# Altium schematic symbol library FRONT-UNIT-7.SchLib: 134 symbols
Pins are listed as number, name and electrical type; pins without a type are passive.

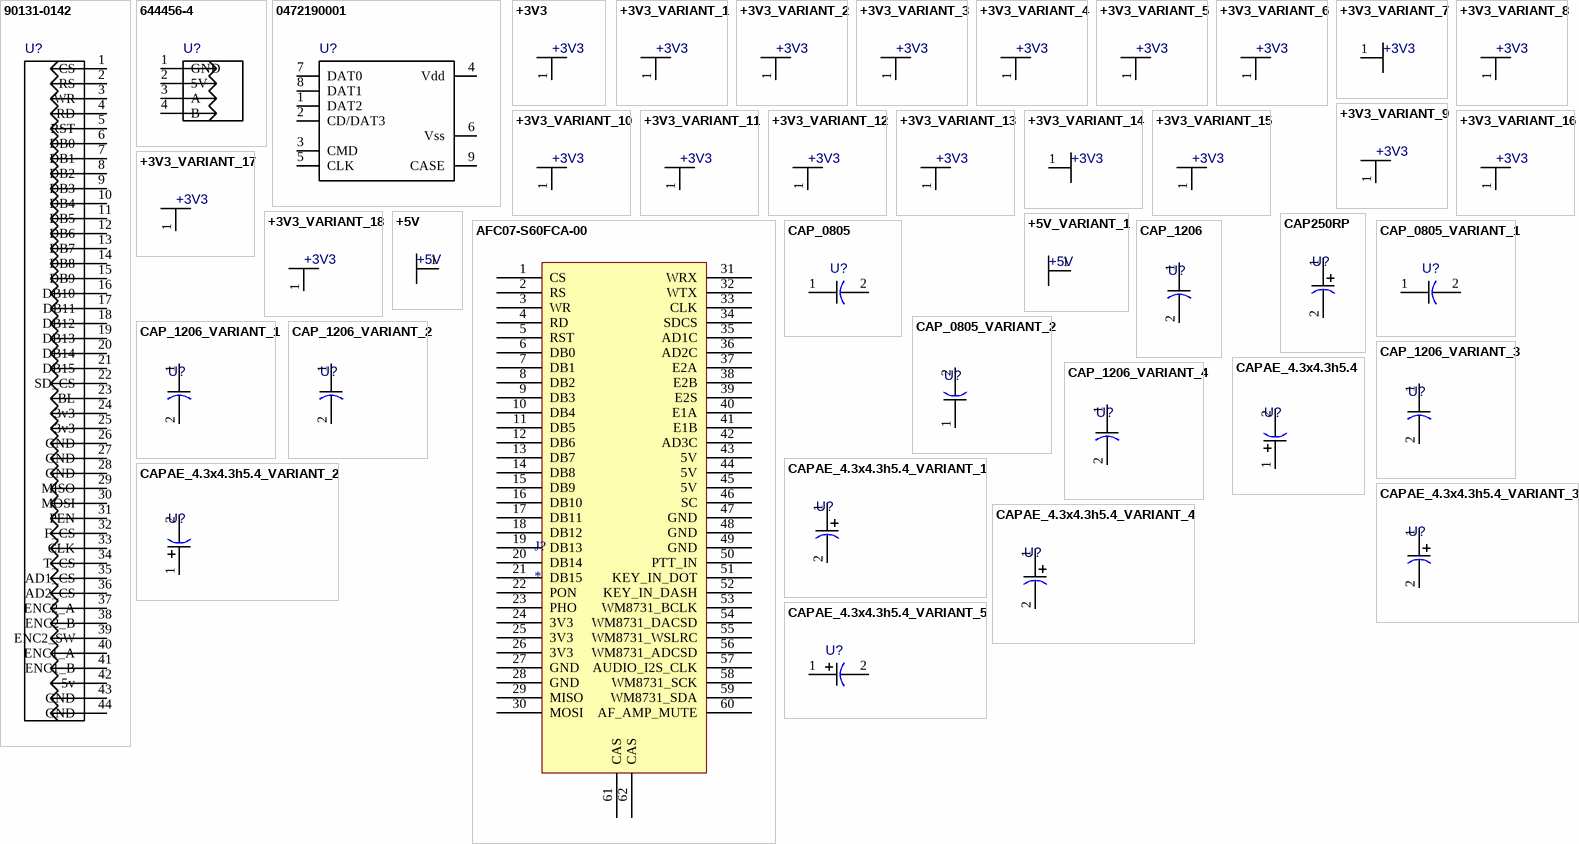
[diagram p0: symbols 90131-0142 to CAPAE_4.3x4.3h5.4_VARIANT_5]

## 90131-0142
designator U?  (value not drawn)
Value: *
footprint HDR-2x22S/2.54x2.54/Sh63x11
pins: 1 CS, 2 RS, 3 WR, 4 RD, 5 RST, 6 DB0, 7 DB1, 8 DB2, 9 DB3, 10 DB4, 11 DB5, 12 DB6, 13 DB7, 14 DB8, 15 DB9, 16 DB10, 17 DB11, 18 DB12, 19 DB13, 20 DB14, 21 DB15, 22 SD_CS, 23 BL, 24 3v3, 25 3v3, 26 GND, 27 GND, 28 GND, 29 MISO, 30 MOSI, 31 PEN, 32 F_CS, 33 CLK, 34 T_CS, 35 AD1_CS, 36 AD2_CS, 37 ENC2_A, 38 ENC2_B, 39 ENC2_SW, 40 ENC1_A, 41 ENC1_B, 42 5v, 43 GND, 44 GND

## 644456-4
designator U?  (value not drawn)
Value: *
footprint HDR-1x4T/2.54/10x2
pins: 1 GND, 2 5V, 3 A, 4 B

## 0472190001
designator U?  (value not drawn)
Value: *
footprint 0472190001
pins: 1 DAT2, 2 CD/DAT3, 3 CMD, 4 Vdd, 5 CLK, 6 Vss, 7 DAT0, 8 DAT1, 9 CASE

## +3V3
designator U?
Value: *
pins: 1 +3V3

## +3V3_VARIANT_1
designator U?, comment +3V3
+3V3_VARIANT_1; Value: *
pins: 1 +3V3

## +3V3_VARIANT_2
designator U?, comment +3V3
+3V3_VARIANT_2; Value: *
pins: 1 +3V3

## +3V3_VARIANT_3
designator U?, comment +3V3
+3V3_VARIANT_3; Value: *
pins: 1 +3V3

## +3V3_VARIANT_4
designator U?, comment +3V3
+3V3_VARIANT_4; Value: *
pins: 1 +3V3

## +3V3_VARIANT_5
designator U?, comment +3V3
+3V3_VARIANT_5; Value: *
pins: 1 +3V3

## +3V3_VARIANT_6
designator U?, comment +3V3
+3V3_VARIANT_6; Value: *
pins: 1 +3V3

## +3V3_VARIANT_7
designator U?, comment +3V3
+3V3_VARIANT_7; Value: *
pins: 1 +3V3

## +3V3_VARIANT_8
designator U?, comment +3V3
+3V3_VARIANT_8; Value: *
pins: 1 +3V3

## +3V3_VARIANT_9
designator U?, comment +3V3
+3V3_VARIANT_9; Value: *
pins: 1 +3V3

## +3V3_VARIANT_10
designator U?, comment +3V3
+3V3_VARIANT_10; Value: *
pins: 1 +3V3

## +3V3_VARIANT_11
designator U?, comment +3V3
+3V3_VARIANT_11; Value: *
pins: 1 +3V3

## +3V3_VARIANT_12
designator U?, comment +3V3
+3V3_VARIANT_12; Value: *
pins: 1 +3V3

## +3V3_VARIANT_13
designator U?, comment +3V3
+3V3_VARIANT_13; Value: *
pins: 1 +3V3

## +3V3_VARIANT_14
designator U?, comment +3V3
+3V3_VARIANT_14; Value: *
pins: 1 +3V3

## +3V3_VARIANT_15
designator U?, comment +3V3
+3V3_VARIANT_15; Value: *
pins: 1 +3V3

## +3V3_VARIANT_16
designator U?, comment +3V3
+3V3_VARIANT_16; Value: *
pins: 1 +3V3

## +3V3_VARIANT_17
designator U?, comment +3V3
+3V3_VARIANT_17; Value: *
pins: 1 +3V3

## +3V3_VARIANT_18
designator U?, comment +3V3
+3V3_VARIANT_18; Value: *
pins: 1 +3V3

## +5V
designator U?
Value: *
pins: 1 +5V

## +5V_VARIANT_1
designator U?, comment +5V
+5V_VARIANT_1; Value: *
pins: 1 +5V

## AFC07-S60FCA-00
designator J?
footprint AFC07-S60FCA-00
pins: 1 CS, 2 RS, 3 WR, 4 RD, 5 RST, 6 DB0, 7 DB1, 8 DB2, 9 DB3, 10 DB4, 11 DB5, 12 DB6, 13 DB7, 14 DB8, 15 DB9, 16 DB10, 17 DB11, 18 DB12, 19 DB13, 20 DB14, 21 DB15, 22 PON, 23 PHO, 24 3V3, 25 3V3, 26 3V3, 27 GND, 28 GND, 29 MISO, 30 MOSI, 31 WRX, 32 WTX, 33 CLK, 34 SDCS, 35 AD1C, 36 AD2C, 37 E2A, 38 E2B, 39 E2S, 40 E1A, 41 E1B, 42 AD3C, 43 5V, 44 5V, 45 5V, 46 SC, 47 GND, 48 GND, 49 GND, 50 PTT_IN, 51 KEY_IN_DOT, 52 KEY_IN_DASH, 53 WM8731_BCLK, 54 WM8731_DACSD, 55 WM8731_WSLRC, 56 WM8731_ADCSD, 57 AUDIO_I2S_CLK, 58 WM8731_SCK, 59 WM8731_SDA, 60 AF_AMP_MUTE, 61 CAS, 62 CAS

## CAP250RP
designator U?  (value not drawn)
Value: *
footprint CAPPR-6.35/8.9
pins: 1 PLUS, 2 MINUS

## CAP_0805
designator U?  (value not drawn)
Value: *
footprint CAP_0805
pins: 1, 2

## CAP_0805_VARIANT_1
designator U?, comment CAP_0805  (value not drawn)
CAP_0805_VARIANT_1; Value: *
footprint CAP_0805
pins: 1, 2

## CAP_0805_VARIANT_2
designator U?, comment CAP_0805  (value not drawn)
CAP_0805_VARIANT_2; Value: *
footprint CAP_0805
pins: 1, 2

## CAP_1206
designator U?  (value not drawn)
Value: *
footprint CAP_1206
pins: 1, 2

## CAP_1206_VARIANT_1
designator U?, comment CAP_1206  (value not drawn)
CAP_1206_VARIANT_1; Value: *
footprint CAP_1206
pins: 1, 2

## CAP_1206_VARIANT_2
designator U?, comment CAP_1206  (value not drawn)
CAP_1206_VARIANT_2; Value: *
footprint CAP_1206
pins: 1, 2

## CAP_1206_VARIANT_3
designator U?, comment CAP_1206  (value not drawn)
CAP_1206_VARIANT_3; Value: *
footprint CAP_1206
pins: 1, 2

## CAP_1206_VARIANT_4
designator U?, comment CAP_1206  (value not drawn)
CAP_1206_VARIANT_4; Value: *
footprint CAP_1206
pins: 1, 2

## CAPAE_4.3x4.3h5.4
designator U?  (value not drawn)
Value: *
footprint TC_1411
pins: 1 PLUS, 2 MINUS

## CAPAE_4.3x4.3h5.4_VARIANT_1
designator U?, comment CAPAE_4.3x4.3h5.4  (value not drawn)
CAPAE_4.3x4.3h5.4_VARIANT_1; Value: *
footprint CAPAE-4.3x4.3h5.4
pins: 1 PLUS, 2 MINUS

## CAPAE_4.3x4.3h5.4_VARIANT_2
designator U?, comment CAPAE_4.3x4.3h5.4  (value not drawn)
CAPAE_4.3x4.3h5.4_VARIANT_2; Value: *
footprint TC_1411
pins: 1 PLUS, 2 MINUS

## CAPAE_4.3x4.3h5.4_VARIANT_3
designator U?, comment CAPAE_4.3x4.3h5.4  (value not drawn)
CAPAE_4.3x4.3h5.4_VARIANT_3; Value: *
footprint TC_1411
pins: 1 PLUS, 2 MINUS

## CAPAE_4.3x4.3h5.4_VARIANT_4
designator U?, comment CAPAE_4.3x4.3h5.4  (value not drawn)
CAPAE_4.3x4.3h5.4_VARIANT_4; Value: *
footprint TC_1411
pins: 1 PLUS, 2 MINUS

## CAPAE_4.3x4.3h5.4_VARIANT_5
designator U?, comment CAPAE_4.3x4.3h5.4  (value not drawn)
CAPAE_4.3x4.3h5.4_VARIANT_5; Value: *
footprint TC_1411
pins: 1 PLUS, 2 MINUS

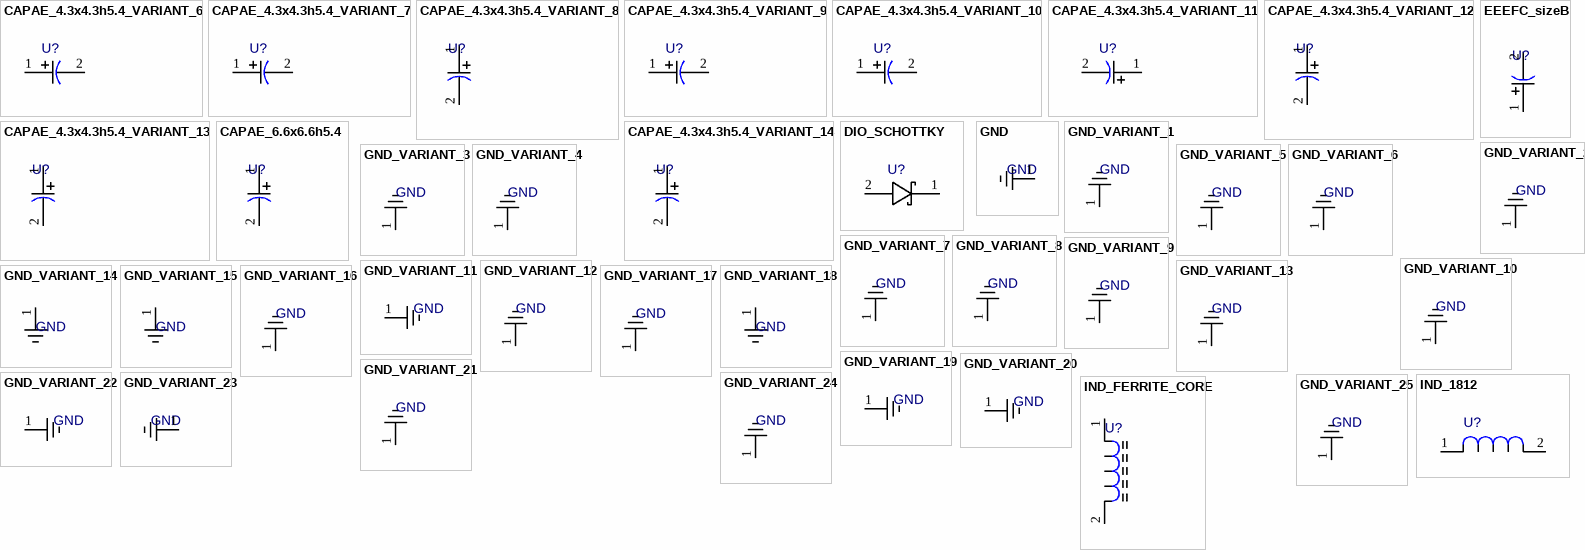
[diagram p1: symbols CAPAE_4.3x4.3h5.4_VARIANT_6 to IND_FERRITE_CORE]

## CAPAE_4.3x4.3h5.4_VARIANT_6
designator U?, comment CAPAE_4.3x4.3h5.4  (value not drawn)
CAPAE_4.3x4.3h5.4_VARIANT_6; Value: *
footprint TC_1411
pins: 1 PLUS, 2 MINUS

## CAPAE_4.3x4.3h5.4_VARIANT_7
designator U?, comment CAPAE_4.3x4.3h5.4  (value not drawn)
CAPAE_4.3x4.3h5.4_VARIANT_7; Value: *
footprint TC_1411
pins: 1 PLUS, 2 MINUS

## CAPAE_4.3x4.3h5.4_VARIANT_8
designator U?, comment CAPAE_4.3x4.3h5.4  (value not drawn)
CAPAE_4.3x4.3h5.4_VARIANT_8; Value: *
footprint TC_1411
pins: 1 PLUS, 2 MINUS

## CAPAE_4.3x4.3h5.4_VARIANT_9
designator U?, comment CAPAE_4.3x4.3h5.4  (value not drawn)
CAPAE_4.3x4.3h5.4_VARIANT_9; Value: *
footprint TC_1411
pins: 1 PLUS, 2 MINUS

## CAPAE_4.3x4.3h5.4_VARIANT_10
designator U?, comment CAPAE_4.3x4.3h5.4  (value not drawn)
CAPAE_4.3x4.3h5.4_VARIANT_10; Value: *
footprint TC_1411
pins: 1 PLUS, 2 MINUS

## CAPAE_4.3x4.3h5.4_VARIANT_11
designator U?, comment CAPAE_4.3x4.3h5.4  (value not drawn)
CAPAE_4.3x4.3h5.4_VARIANT_11; Value: *
footprint TC_1411
pins: 1 PLUS, 2 MINUS

## CAPAE_4.3x4.3h5.4_VARIANT_12
designator U?, comment CAPAE_4.3x4.3h5.4  (value not drawn)
CAPAE_4.3x4.3h5.4_VARIANT_12; Value: *
footprint TC_1411
pins: 1 PLUS, 2 MINUS

## CAPAE_4.3x4.3h5.4_VARIANT_13
designator U?, comment CAPAE_4.3x4.3h5.4  (value not drawn)
CAPAE_4.3x4.3h5.4_VARIANT_13; Value: *
footprint TC_1411
pins: 1 PLUS, 2 MINUS

## CAPAE_4.3x4.3h5.4_VARIANT_14
designator U?, comment CAPAE_4.3x4.3h5.4  (value not drawn)
CAPAE_4.3x4.3h5.4_VARIANT_14; Value: *
footprint TC_1411
pins: 1 PLUS, 2 MINUS

## CAPAE_6.6x6.6h5.4
designator U?  (value not drawn)
Value: *
footprint CAPAE-6.6x6.6h5.4
pins: 1 PLUS, 2 MINUS

## DIO_SCHOTTKY
designator U?  (value not drawn)
Value: *
footprint DO-201AD
pins: 1 K, 2 A

## EEEFC_sizeB
designator U?  (value not drawn)
Value: *
footprint TC_1411
pins: 1 PLUS, 2 MINUS

## GND
designator U?
Value: *
pins: 1 GND

## GND_VARIANT_1
designator U?, comment GND
GND_VARIANT_1; Value: *
pins: 1 GND

## GND_VARIANT_2
designator U?, comment GND
GND_VARIANT_2; Value: *
pins: 1 GND

## GND_VARIANT_3
designator U?, comment GND
GND_VARIANT_3; Value: *
pins: 1 GND

## GND_VARIANT_4
designator U?, comment GND
GND_VARIANT_4; Value: *
pins: 1 GND

## GND_VARIANT_5
designator U?, comment GND
GND_VARIANT_5; Value: *
pins: 1 GND

## GND_VARIANT_6
designator U?, comment GND
GND_VARIANT_6; Value: *
pins: 1 GND

## GND_VARIANT_7
designator U?, comment GND
GND_VARIANT_7; Value: *
pins: 1 GND

## GND_VARIANT_8
designator U?, comment GND
GND_VARIANT_8; Value: *
pins: 1 GND

## GND_VARIANT_9
designator U?, comment GND
GND_VARIANT_9; Value: *
pins: 1 GND

## GND_VARIANT_10
designator U?, comment GND
GND_VARIANT_10; Value: *
pins: 1 GND

## GND_VARIANT_11
designator U?, comment GND
GND_VARIANT_11; Value: *
pins: 1 GND

## GND_VARIANT_12
designator U?, comment GND
GND_VARIANT_12; Value: *
pins: 1 GND

## GND_VARIANT_13
designator U?, comment GND
GND_VARIANT_13; Value: *
pins: 1 GND

## GND_VARIANT_14
designator U?, comment GND
GND_VARIANT_14; Value: *
pins: 1 GND

## GND_VARIANT_15
designator U?, comment GND
GND_VARIANT_15; Value: *
pins: 1 GND

## GND_VARIANT_16
designator U?, comment GND
GND_VARIANT_16; Value: *
pins: 1 GND

## GND_VARIANT_17
designator U?, comment GND
GND_VARIANT_17; Value: *
pins: 1 GND

## GND_VARIANT_18
designator U?, comment GND
GND_VARIANT_18; Value: *
pins: 1 GND

## GND_VARIANT_19
designator U?, comment GND
GND_VARIANT_19; Value: *
pins: 1 GND

## GND_VARIANT_20
designator U?, comment GND
GND_VARIANT_20; Value: *
pins: 1 GND

## GND_VARIANT_21
designator U?, comment GND
GND_VARIANT_21; Value: *
pins: 1 GND

## GND_VARIANT_22
designator U?, comment GND
GND_VARIANT_22; Value: *
pins: 1 GND

## GND_VARIANT_23
designator U?, comment GND
GND_VARIANT_23; Value: *
pins: 1 GND

## GND_VARIANT_24
designator U?, comment GND
GND_VARIANT_24; Value: *
pins: 1 GND

## GND_VARIANT_25
designator U?, comment GND
GND_VARIANT_25; Value: *
pins: 1 GND

## IND_1812
designator U?  (value not drawn)
Value: *
footprint IND_1812
pins: 1, 2

## IND_FERRITE_CORE
designator U?  (value not drawn)
Value: *
footprint B82464Z4
pins: 1 A, 2 B

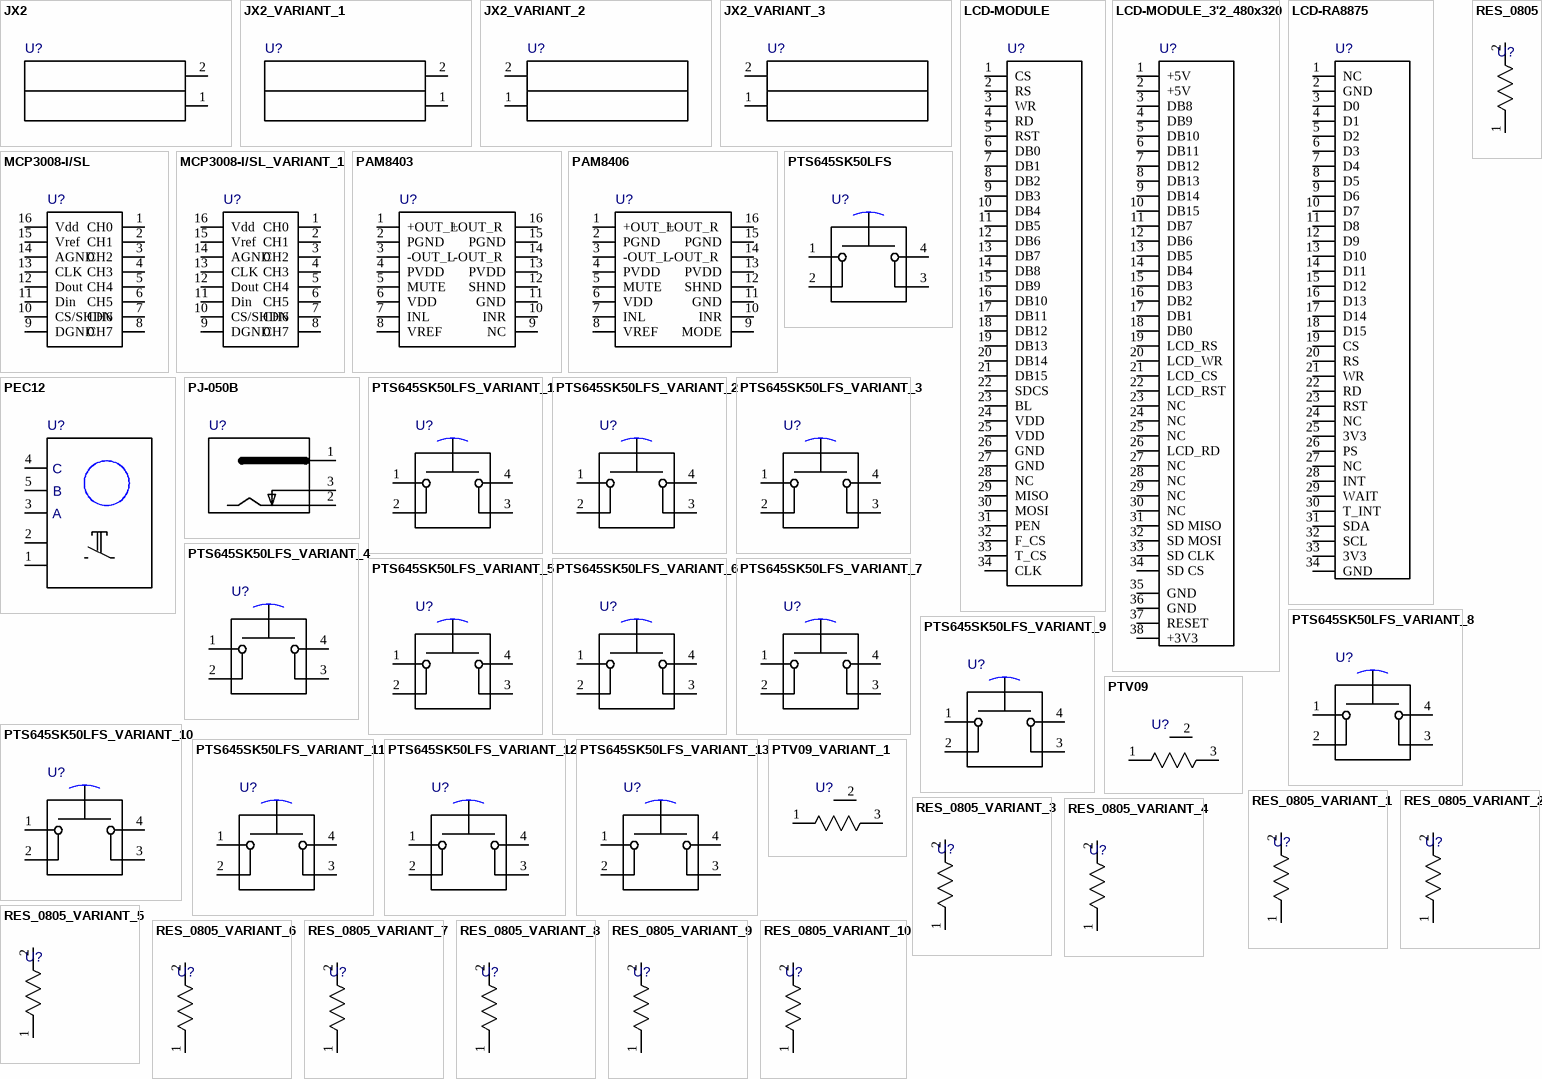
[diagram p2: symbols JX2 to RES_0805_VARIANT_10]

## JX2
designator U?  (value not drawn)
Value: *
footprint TBH-1x2/3.81/8x3
pins: 1 2, 2 1

## JX2_VARIANT_1
designator U?, comment JX2  (value not drawn)
JX2_VARIANT_1; Value: *
footprint TBH-1x2/3.81/8x3
pins: 1 2, 2 1

## JX2_VARIANT_2
designator U?, comment JX2  (value not drawn)
JX2_VARIANT_2; Value: *
footprint TBH-1x2/3.81/8x3
pins: 1 2, 2 1

## JX2_VARIANT_3
designator U?, comment JX2  (value not drawn)
JX2_VARIANT_3; Value: *
footprint TBH-1x2/3.81/8x3
pins: 1 2, 2 1

## LCD-MODULE
designator U?  (value not drawn)
Value: *
footprint LCD-MODULE
pins: 1 CS, 2 RS, 3 WR, 4 RD, 5 RST, 6 DB0, 7 DB1, 8 DB2, 9 DB3, 10 DB4, 11 DB5, 12 DB6, 13 DB7, 14 DB8, 15 DB9, 16 DB10, 17 DB11, 18 DB12, 19 DB13, 20 DB14, 21 DB15, 22 SDCS, 23 BL, 24 VDD, 25 VDD, 26 GND, 27 GND, 28 NC, 29 MISO, 30 MOSI, 31 PEN, 32 F_CS, 33 T_CS, 34 CLK

## LCD-MODULE_3'2_480х320
designator U?  (value not drawn)
Value: *
footprint LCD-MODULE-3.2-480-320
pins: 1 +5V, 2 +5V, 3 DB8, 4 DB9, 5 DB10, 6 DB11, 7 DB12, 8 DB13, 9 DB14, 10 DB15, 11 DB7, 12 DB6, 13 DB5, 14 DB4, 15 DB3, 16 DB2, 17 DB1, 18 DB0, 19 LCD_RS, 20 LCD_WR, 21 LCD_CS, 22 LCD_RST, 23 NC, 24 NC, 25 NC, 26 LCD_RD, 27 NC, 28 NC, 29 NC, 30 NC, 31 SD MISO, 32 SD MOSI, 33 SD CLK, 34 SD CS, 35 GND, 36 GND, 37 RESET, 38 +3V3

## LCD-RA8875
designator U?  (value not drawn)
Value: *
footprint LCD-RA8875
pins: 1 NC, 2 GND, 3 D0, 4 D1, 5 D2, 6 D3, 7 D4, 8 D5, 9 D6, 10 D7, 11 D8, 12 D9, 13 D10, 14 D11, 15 D12, 16 D13, 17 D14, 18 D15, 19 CS, 20 RS, 21 WR, 22 RD, 23 RST, 24 NC, 25 3V3, 26 PS, 27 NC, 28 INT, 29 WAIT, 30 T_INT, 31 SDA, 32 SCL, 33 3V3, 34 GND

## MCP3008-I/SL
designator U?  (value not drawn)
Value: *
footprint SOIC-16/150mil
pins: 1 CH0, 2 CH1, 3 CH2, 4 CH3, 5 CH4, 6 CH5, 7 CH6, 8 CH7, 9 DGND, 10 CS/SHDN, 11 Din, 12 Dout, 13 CLK, 14 AGND, 15 Vref, 16 Vdd

## MCP3008-I/SL_VARIANT_1
designator U?, comment MCP3008-I/SL  (value not drawn)
MCP3008-I/SL_VARIANT_1; Value: *
footprint SOIC-16/150mil
pins: 1 CH0, 2 CH1, 3 CH2, 4 CH3, 5 CH4, 6 CH5, 7 CH6, 8 CH7, 9 DGND, 10 CS/SHDN, 11 Din, 12 Dout, 13 CLK, 14 AGND, 15 Vref, 16 Vdd

## PAM8403
designator U?  (value not drawn)
Value: *
footprint PAM8403
pins: 1 +OUT_L , 2 PGND, 3 -OUT_L , 4 PVDD, 5 MUTE, 6 VDD, 7 INL, 8 VREF, 9 NC, 10 INR, 11 GND, 12 SHND, 13 PVDD, 14 -OUT_R , 15 PGND, 16 +OUT_R 

## PAM8406
designator U?  (value not drawn)
Value: *
footprint PAM8403
pins: 1 +OUT_L , 2 PGND, 3 -OUT_L , 4 PVDD, 5 MUTE, 6 VDD, 7 INL, 8 VREF, 9 MODE, 10 INR, 11 GND, 12 SHND, 13 PVDD, 14 -OUT_R , 15 PGND, 16 +OUT_R 

## PEC12
designator U?  (value not drawn)
Value: *
footprint PEC12
pins: 1, 2, 3 A, 4 C, 5 B

## PJ-050B
designator U?  (value not drawn)
Value: *
footprint PJ-050B
pins: 1, 2, 3

## PTS645SK50LFS
designator U?  (value not drawn)
Value: *
footprint PTS-6-S
pins: 1 A, 2 A, 3 B, 4 B

## PTS645SK50LFS_VARIANT_1
designator U?, comment PTS645SK50LFS  (value not drawn)
PTS645SK50LFS_VARIANT_1; Value: *
footprint PTS-6-S
pins: 1 A, 2 A, 3 B, 4 B

## PTS645SK50LFS_VARIANT_2
designator U?, comment PTS645SK50LFS  (value not drawn)
PTS645SK50LFS_VARIANT_2; Value: *
footprint PTS-6-S
pins: 1 A, 2 A, 3 B, 4 B

## PTS645SK50LFS_VARIANT_3
designator U?, comment PTS645SK50LFS  (value not drawn)
PTS645SK50LFS_VARIANT_3; Value: *
footprint PTS-6-S
pins: 1 A, 2 A, 3 B, 4 B

## PTS645SK50LFS_VARIANT_4
designator U?, comment PTS645SK50LFS  (value not drawn)
PTS645SK50LFS_VARIANT_4; Value: *
footprint PTS-6-S
pins: 1 A, 2 A, 3 B, 4 B

## PTS645SK50LFS_VARIANT_5
designator U?, comment PTS645SK50LFS  (value not drawn)
PTS645SK50LFS_VARIANT_5; Value: *
footprint PTS-6-S
pins: 1 A, 2 A, 3 B, 4 B

## PTS645SK50LFS_VARIANT_6
designator U?, comment PTS645SK50LFS  (value not drawn)
PTS645SK50LFS_VARIANT_6; Value: *
footprint PTS-6-S
pins: 1 A, 2 A, 3 B, 4 B

## PTS645SK50LFS_VARIANT_7
designator U?, comment PTS645SK50LFS  (value not drawn)
PTS645SK50LFS_VARIANT_7; Value: *
footprint PTS-6-S
pins: 1 A, 2 A, 3 B, 4 B

## PTS645SK50LFS_VARIANT_8
designator U?, comment PTS645SK50LFS  (value not drawn)
PTS645SK50LFS_VARIANT_8; Value: *
footprint PTS-6-S
pins: 1 A, 2 A, 3 B, 4 B

## PTS645SK50LFS_VARIANT_9
designator U?, comment PTS645SK50LFS  (value not drawn)
PTS645SK50LFS_VARIANT_9; Value: *
footprint PTS-6-S
pins: 1 A, 2 A, 3 B, 4 B

## PTS645SK50LFS_VARIANT_10
designator U?, comment PTS645SK50LFS  (value not drawn)
PTS645SK50LFS_VARIANT_10; Value: *
footprint PTS-6-S
pins: 1 A, 2 A, 3 B, 4 B

## PTS645SK50LFS_VARIANT_11
designator U?, comment PTS645SK50LFS  (value not drawn)
PTS645SK50LFS_VARIANT_11; Value: *
footprint PTS-6-S
pins: 1 A, 2 A, 3 B, 4 B

## PTS645SK50LFS_VARIANT_12
designator U?, comment PTS645SK50LFS  (value not drawn)
PTS645SK50LFS_VARIANT_12; Value: *
footprint PTS-6-S
pins: 1 A, 2 A, 3 B, 4 B

## PTS645SK50LFS_VARIANT_13
designator U?, comment PTS645SK50LFS  (value not drawn)
PTS645SK50LFS_VARIANT_13; Value: *
footprint PTS-6-S
pins: 1 A, 2 A, 3 B, 4 B

## PTV09
designator U?  (value not drawn)
Value: *
footprint PTV09
pins: 1 CW, 2 W, 3 CCW

## PTV09_VARIANT_1
designator U?, comment PTV09  (value not drawn)
PTV09_VARIANT_1; Value: *
footprint PTV09
pins: 1 CW, 2 W, 3 CCW

## RES_0805
designator U?  (value not drawn)
Value: *
footprint RES_0805
pins: 1, 2

## RES_0805_VARIANT_1
designator U?, comment RES_0805  (value not drawn)
RES_0805_VARIANT_1; Value: *
footprint RES_0805
pins: 1, 2

## RES_0805_VARIANT_2
designator U?, comment RES_0805  (value not drawn)
RES_0805_VARIANT_2; Value: *
footprint RES_0805
pins: 1, 2

## RES_0805_VARIANT_3
designator U?, comment RES_0805  (value not drawn)
RES_0805_VARIANT_3; Value: *
footprint RES_0805
pins: 1, 2

## RES_0805_VARIANT_4
designator U?, comment RES_0805  (value not drawn)
RES_0805_VARIANT_4; Value: *
footprint RES_0805
pins: 1, 2

## RES_0805_VARIANT_5
designator U?, comment RES_0805  (value not drawn)
RES_0805_VARIANT_5; Value: *
footprint RES_0805
pins: 1, 2

## RES_0805_VARIANT_6
designator U?, comment RES_0805  (value not drawn)
RES_0805_VARIANT_6; Value: *
footprint RES_0805
pins: 1, 2

## RES_0805_VARIANT_7
designator U?, comment RES_0805  (value not drawn)
RES_0805_VARIANT_7; Value: *
footprint RES_0805
pins: 1, 2

## RES_0805_VARIANT_8
designator U?, comment RES_0805  (value not drawn)
RES_0805_VARIANT_8; Value: *
footprint RES_0805
pins: 1, 2

## RES_0805_VARIANT_9
designator U?, comment RES_0805  (value not drawn)
RES_0805_VARIANT_9; Value: *
footprint RES_0805
pins: 1, 2

## RES_0805_VARIANT_10
designator U?, comment RES_0805  (value not drawn)
RES_0805_VARIANT_10; Value: *
footprint RES_0805
pins: 1, 2

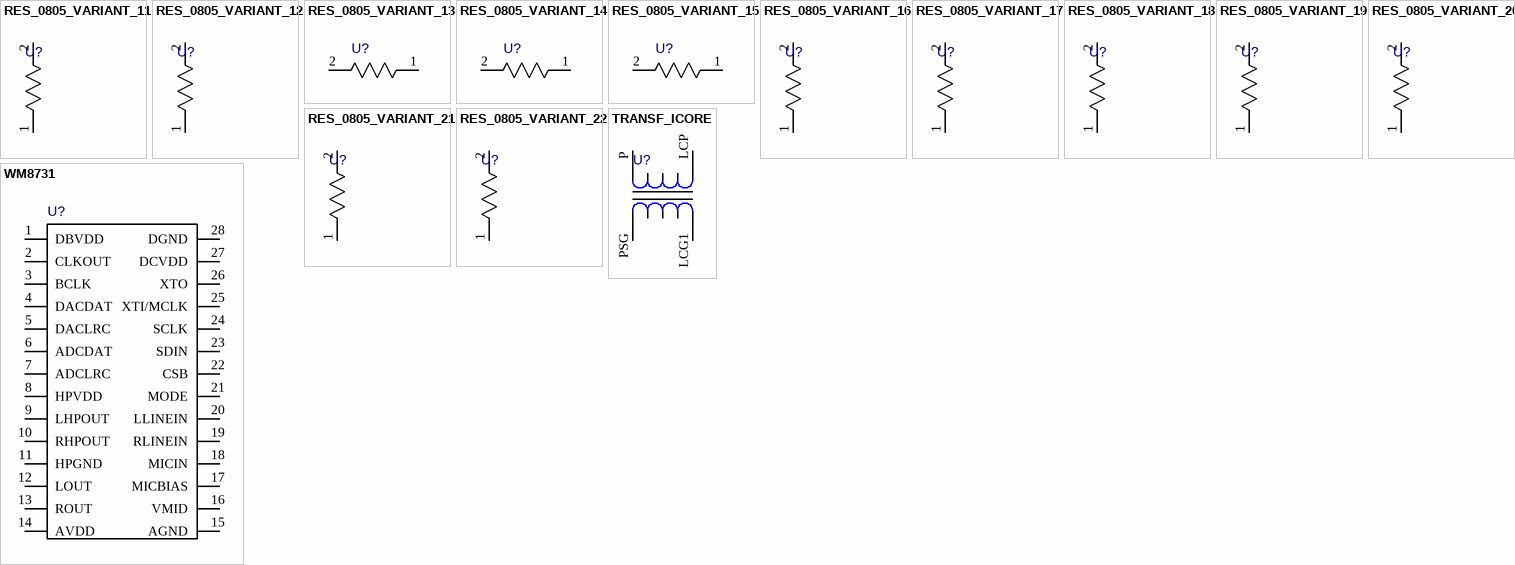
[diagram p3: symbols RES_0805_VARIANT_11 to WM8731]

## RES_0805_VARIANT_11
designator U?, comment RES_0805  (value not drawn)
RES_0805_VARIANT_11; Value: *
footprint RES_0805
pins: 1, 2

## RES_0805_VARIANT_12
designator U?, comment RES_0805  (value not drawn)
RES_0805_VARIANT_12; Value: *
footprint RES_0805
pins: 1, 2

## RES_0805_VARIANT_13
designator U?, comment RES_0805  (value not drawn)
RES_0805_VARIANT_13; Value: *
footprint RES_0805
pins: 1, 2

## RES_0805_VARIANT_14
designator U?, comment RES_0805  (value not drawn)
RES_0805_VARIANT_14; Value: *
footprint RES_0805
pins: 1, 2

## RES_0805_VARIANT_15
designator U?, comment RES_0805  (value not drawn)
RES_0805_VARIANT_15; Value: *
footprint RES_0805
pins: 1, 2

## RES_0805_VARIANT_16
designator U?, comment RES_0805  (value not drawn)
RES_0805_VARIANT_16; Value: *
footprint RES_0805
pins: 1, 2

## RES_0805_VARIANT_17
designator U?, comment RES_0805  (value not drawn)
RES_0805_VARIANT_17; Value: *
footprint RES_0805
pins: 1, 2

## RES_0805_VARIANT_18
designator U?, comment RES_0805  (value not drawn)
RES_0805_VARIANT_18; Value: *
footprint RES_0805
pins: 1, 2

## RES_0805_VARIANT_19
designator U?, comment RES_0805  (value not drawn)
RES_0805_VARIANT_19; Value: *
footprint RES_0805
pins: 1, 2

## RES_0805_VARIANT_20
designator U?, comment RES_0805  (value not drawn)
RES_0805_VARIANT_20; Value: *
footprint RES_0805
pins: 1, 2

## RES_0805_VARIANT_21
designator U?, comment RES_0805  (value not drawn)
RES_0805_VARIANT_21; Value: *
footprint RES_0805
pins: 1, 2

## RES_0805_VARIANT_22
designator U?, comment RES_0805  (value not drawn)
RES_0805_VARIANT_22; Value: *
footprint RES_0805
pins: 1, 2

## TRANSF_ICORE
designator U?  (value not drawn)
Value: *
footprint BNX016
pins: LCG1 S2, LCP P2, P P1, PSG S1

## WM8731
designator U?  (value not drawn)
Value: *
footprint WM8731
pins: 1 DBVDD, 2 CLKOUT, 3 BCLK, 4 DACDAT, 5 DACLRC, 6 ADCDAT, 7 ADCLRC, 8 HPVDD, 9 LHPOUT, 10 RHPOUT, 11 HPGND, 12 LOUT, 13 ROUT, 14 AVDD, 15 AGND, 16 VMID, 17 MICBIAS, 18 MICIN, 19 RLINEIN, 20 LLINEIN, 21 MODE, 22 CSB, 23 SDIN, 24 SCLK, 25 XTI/MCLK, 26 XTO, 27 DCVDD, 28 DGND